# Altium schematic symbol library U_MCP65R41.Schlib: 1 symbol
Pins are listed as number, name and electrical type; pins without a type are passive.

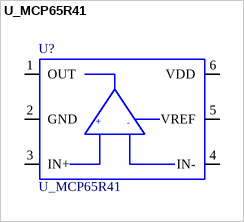
[diagram p0: symbol U_MCP65R41]

## U_MCP65R41
designator U?
pins: 1 OUT, 2 GND, 3 IN+, 4 IN-, 5 VREF, 6 VDD
text: +; -